# EAGLE library part MC14503BDG (library ON Semiconductor_By_element14_Batch_1)
Hex Non-Inverting 3-State Buffer
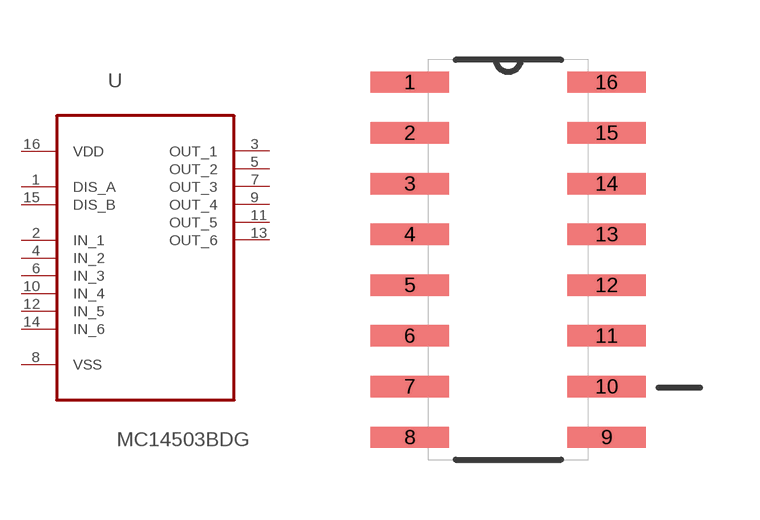
[diagram p273: symbol with the pads of SOIC127P600X175-16N; footprint SOIC127P600X175-16N]

Designator prefix U

## MC14503BDG (MPN: MC14503BDG; OC_FARNELL: -; OC_NEWARK: 71J5487; P1I: o; PACKAGE: SOIC-16; SUPPLIER: ON SEMICONDUCTOR)  [SOIC127P600X175-16N]
1  DIS_A  in
2  IN_1  in
3  OUT_1  out
4  IN_2  in
5  OUT_2  out
6  IN_3  in
7  OUT_3  out
8  VSS  pas
9  OUT_4  out
10  IN_4  in
11  OUT_5  out
12  IN_5  in
13  OUT_6  out
14  IN_6  in
15  DIS_B  in
16  VDD  pwr

## Footprint SOIC127P600X175-16N (pad centres in mm)
smd 1.956 x 0.533: 1 -2.464,4.445; 2 -2.464,3.175; 3 -2.464,1.905; 4 -2.464,0.635; 5 -2.464,-0.635; 6 -2.464,-1.905; 7 -2.464,-3.175; 8 -2.464,-4.445; 9 2.464,-4.445; 10 2.464,-3.175; 11 2.464,-1.905; 12 2.464,-0.635; 13 2.464,0.635; 14 2.464,1.905; 15 2.464,3.175; 16 2.464,4.445